# Altium schematic symbol library SHARP-LHF00L09.schlib: 1 symbol
Pins are listed as number, name and electrical type; pins without a type are passive.

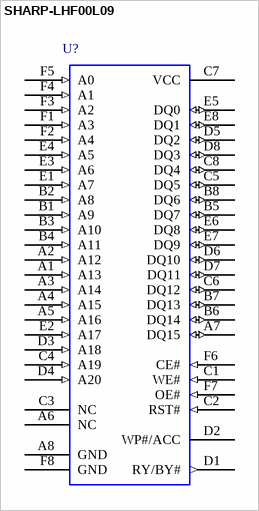
[diagram p0: symbol SHARP-LHF00L09]

## SHARP-LHF00L09
designator U?  (value not drawn)
Flash Memory 32M (2MB ×16); CircuitryPartsPN: SHARP-LHF00L09; ManufacturerPN: LHF00L09; Manufacturer: Sharp Microelectronics; CategoryI: Integrated Circuits (ICs); SchematicRev: A; DesignedBy: Circuitry Parts; MfgURL: http://www.sharpsma.com/; PackageName: CSP48; FootprintName: *; CategoryII: Memory; Value: *; DesignedOn: 7/19/2005 11:03:50 AM
pins: A1 A13 (in), A2 A12 (in), A3 A14 (in), A4 A15 (in), A5 A16 (in), A6 NC, A7 DQ15 (io), A8 GND (power), B1 A9 (in), B2 A8 (in), B3 A10 (in), B4 A11 (in), B5 DQ7 (io), B6 DQ14 (io), B7 DQ13 (io), B8 DQ6 (io), C1 WE# (in), C2 RST# (in), C3 NC, C4 A19 (in), C5 DQ5 (io), C6 DQ12 (io), C7 VCC (power), C8 DQ4 (io), D1 RY/BY# (out), D2 WP#/ACC (power), D3 A18 (in), D4 A20 (in), D5 DQ2 (io), D6 DQ10 (io), D7 DQ11 (io), D8 DQ3 (io), E1 A7 (in), E2 A17 (in), E3 A6 (in), E4 A5 (in), E5 DQ0 (io), E6 DQ8 (io), E7 DQ9 (io), E8 DQ1 (io), F1 A3 (in), F2 A4 (in), F3 A2 (in), F4 A1 (in), F5 A0 (in), F6 CE# (in), F7 OE# (in), F8 GND (power)